# Altium integrated library HC49.IntLib: 1 symbol
Pins are listed as number, name and electrical type; pins without a type are passive.

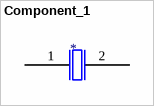
[diagram p0: symbol Component_1]

## Component_1
designator *  (value not drawn)
footprint HC49
pins: 1, 2